# Altium schematic symbol library ISM330DHCXTR.Schlib: 1 symbol
Pins are listed as number, name and electrical type; pins without a type are passive.

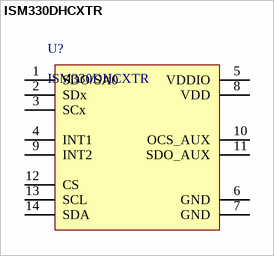
[diagram p0: symbol ISM330DHCXTR]

## ISM330DHCXTR
designator U?
Accelerometer, Gyroscope, Temperature, 6 Axis Sensor I²C, SPI Output
pins: 1 SDO/SA0, 2 SDx, 3 SCx, 4 INT1, 5 VDDIO, 6 GND, 7 GND, 8 VDD, 9 INT2, 10 OCS_AUX, 11 SDO_AUX, 12 CS, 13 SCL, 14 SDA